# Altium footprint library PQFN50P500X700X80_HS-39N.PcbLib: 1 footprints
Each footprint in its own frame and in the unit in brackets; x right, y up, seen from the top. Pads: shape width x height; smd on the part's side, far side on the other; paste and mask are expansions set on the pad; w line width, h text height; cw(c..) or ccw(c..) is an arc to the next point about the centre after c.
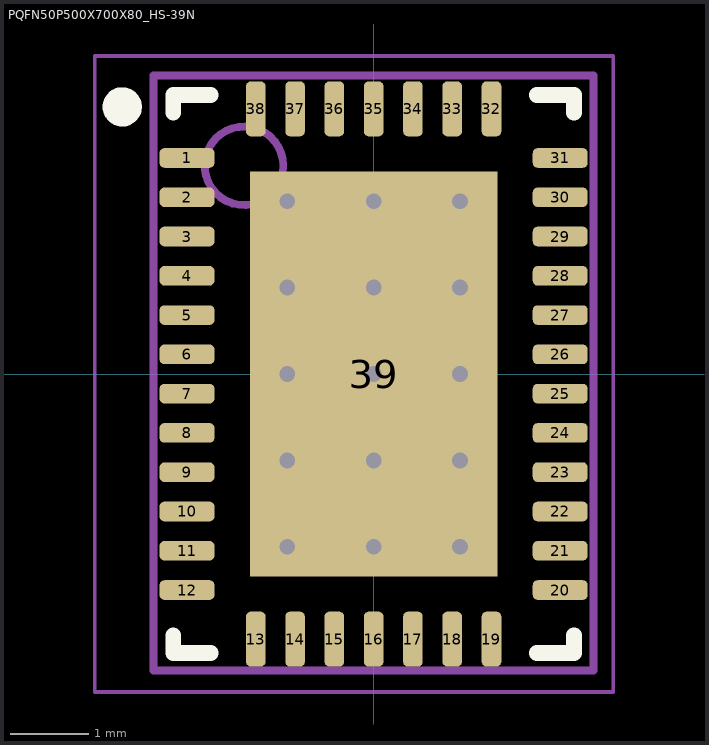
[diagram p0: the footprint, top view; thin cyan lines are the x and y axes]

## PQFN50P500X700X80_HS-39N [mm] "PQFN, 38-Leads, Body 5,00x7,00mm, Pitch 0,50mm, Thermal Pad 3,15x5,15mm, IPC Medium Density"
height 0.8
pads (39):
  rrect50% 0.7x0.25 smd mask+0.05: 1(-2.375,2.75) 2(-2.375,2.25) 3(-2.375,1.75) 4(-2.375,1.25) 5(-2.375,0.75) 6(-2.375,0.25) 7(-2.375,-0.25) 8(-2.375,-0.75) 9(-2.375,-1.25) 10(-2.375,-1.75) 11(-2.375,-2.25) 12(-2.375,-2.75) 20(2.375,-2.75) 21(2.375,-2.25) 22(2.375,-1.75) 23(2.375,-1.25) 24(2.375,-0.75) 25(2.375,-0.25) 26(2.375,0.25) 27(2.375,0.75) 28(2.375,1.25) 29(2.375,1.75) 30(2.375,2.25) 31(2.375,2.75)
  rrect50% 0.25x0.7 smd mask+0.05: 13(-1.5,-3.375) 14(-1,-3.375) 15(-0.5,-3.375) 16(0,-3.375) 17(0.5,-3.375) 18(1,-3.375) 19(1.5,-3.375) 32(1.5,3.375) 33(1,3.375) 34(0.5,3.375) 35(0,3.375) 36(-0.5,3.375) 37(-1,3.375) 38(-1.5,3.375)
  rect 3.15x5.15 smd mask+0.05: 39(0,0)
via 1.1,-2.2 diameter 0.5 hole 0.2
via 0,-2.2 diameter 0.5 hole 0.2
via -1.1,-2.2 diameter 0.5 hole 0.2
via 1.1,-1.1 diameter 0.5 hole 0.2
via 0,-1.1 diameter 0.5 hole 0.2
via -1.1,-1.1 diameter 0.5 hole 0.2
via 1.1,0 diameter 0.5 hole 0.2
via 0,0 diameter 0.5 hole 0.2
via -1.1,0 diameter 0.5 hole 0.2
via 1.1,1.1 diameter 0.5 hole 0.2
via 0,1.1 diameter 0.5 hole 0.2
via -1.1,1.1 diameter 0.5 hole 0.2
via 1.1,2.2 diameter 0.5 hole 0.2
via 0,2.2 diameter 0.5 hole 0.2
via -1.1,2.2 diameter 0.5 hole 0.2
Top Overlay:
  circle w0.25: c-3.2,3.4 r0.125
  lines w0.2: -2.55,-3.325 -2.55,-3.55 -2.075,-3.55 ; -2.55,3.325 -2.55,3.55 -2.075,3.55 ; 2.075,-3.55 2.55,-3.55 2.55,-3.325 ; 2.075,3.55 2.55,3.55 2.55,3.325
Top Assembly:
  circle w0.1: c-1.65,2.65 r0.5
  lines w0.1: -2.8,-3.775 2.8,-3.775 2.8,3.8 -2.8,3.8 -2.8,-3.775
Top Courtyard:
  lines w0.05: -3.55,-4.05 3.05,-4.05 3.05,4.05 -3.55,4.05 -3.55,-4.05
  lines w0.1: -0.5,0 0.5,0 ; 0,-0.5 0,0.5
3D body "PQFN50P500X700X80_HS-39N.step": height 0.8, standoff 0, extent -2.8,-3.8 2.8,3.8